# Altium footprint library Cap_Panasonic_ECA-1HM101_eec_0.PcbLib: 1 footprints
Each footprint in its own frame and in the unit in brackets; x right, y up, seen from the top. Pads: shape width x height; smd on the part's side, far side on the other; paste and mask are expansions set on the pad; w line width, h text height; cw(c..) or ccw(c..) is an arc to the next point about the centre after c.
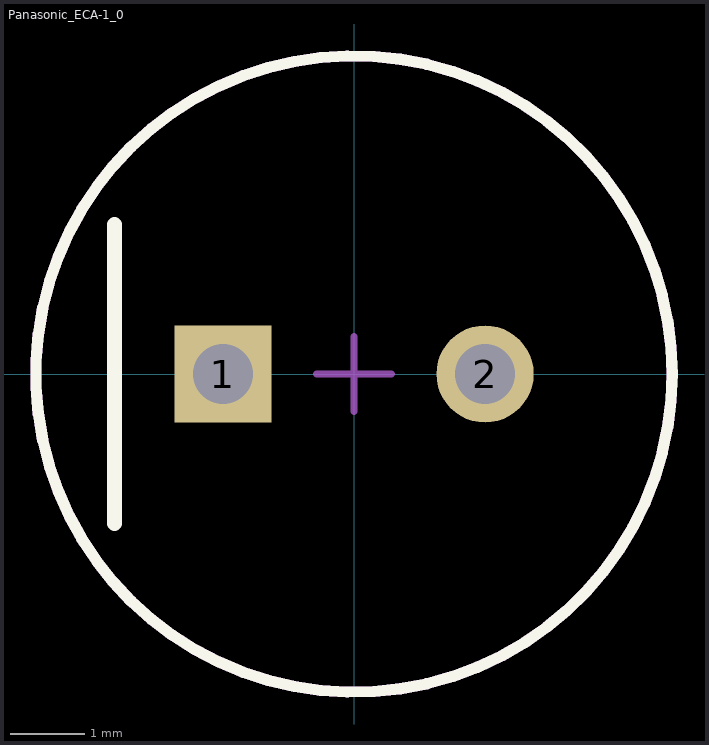
[diagram p0: the footprint, top view; thin cyan lines are the x and y axes]

## Panasonic_ECA-1_0 [mm]
pads (2):
  rect 1.3x1.3 hole 0.8 paste-1000 mask+0: 1(-1.75,0)
  round 1.3 hole 0.8 paste-1000 mask+0: 2(1.75,0)
Top Overlay:
  circle w0.15: c0,0 r4.25
  lines w0.2: -3.2,-2 -3.2,2
Mechanical 10:
  text ".Designator" at 0,0 h1
Mechanical 12:
  circle w0.15: c0,0 r4.25
Mechanical 15:
  lines w0.1: -0.5,0 0.5,0 ; 0,-0.5 0,0.5
3D body "Cap_Panasonic_ECA-1HM101_eec.STEP": height 0.25, standoff 0